# EAGLE library part MCP2517FD-H/SL (library MCP2517FD-H_SL)
CANbus Controller CAN 2.0 SPI Interface 14-SOIC Check prices <https://pricing.snapeda.com/parts/MCP2517FD-H/SL/Microchip/view-part?ref=eda>
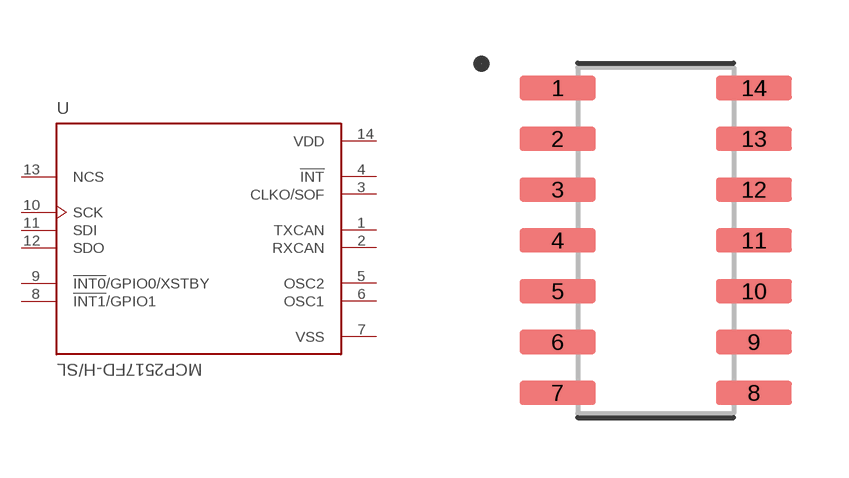
[diagram p0: symbol with the pads of SOIC127P600X175-14N; footprint SOIC127P600X175-14N]

Designator prefix U

## MCP2517FD-H/SL (Availability: In Stock; Description: CANbus Controller CAN 2.0 SPI Interface 14-SOIC; MF: Microchip; MP: MCP2517FD-H/SL; Package: SO-14 Microchip; Price: None; Purchase-URL: https://pricing.snapeda.com/search/part/MCP2517FD-H/SL/?ref=eda)  [SOIC127P600X175-14N]
1  TXCAN  out
2  RXCAN  in
3  CLKO/SOF  out
4  !INT  out
5  OSC2  out
6  OSC1  in
7  VSS  pwr
8  !INT1!/GPIO1
9  !INT0!/GPIO0/XSTBY
10  SCK  in
11  SDI  in
12  SDO  out
13  NCS  in
14  VDD  pwr

## Footprint SOIC127P600X175-14N (pad centres in mm)
smd 1.9 x 0.6: 1 -2.455,3.81; 2 -2.455,2.54; 3 -2.455,1.27; 4 -2.455,0; 5 -2.455,-1.27; 6 -2.455,-2.54; 7 -2.455,-3.81; 8 2.455,-3.81; 9 2.455,-2.54; 10 2.455,-1.27; 11 2.455,0; 12 2.455,1.27; 13 2.455,2.54; 14 2.455,3.81